# Altium footprint library HAB_Lib.PcbLib: 104 footprints (part 2 of 7)
Each footprint in its own frame and in the unit in brackets; x right, y up, seen from the top. Pads: shape width x height; smd on the part's side, far side on the other; paste and mask are expansions set on the pad; w line width, h text height; cw(c..) or ccw(c..) is an arc to the next point about the centre after c.
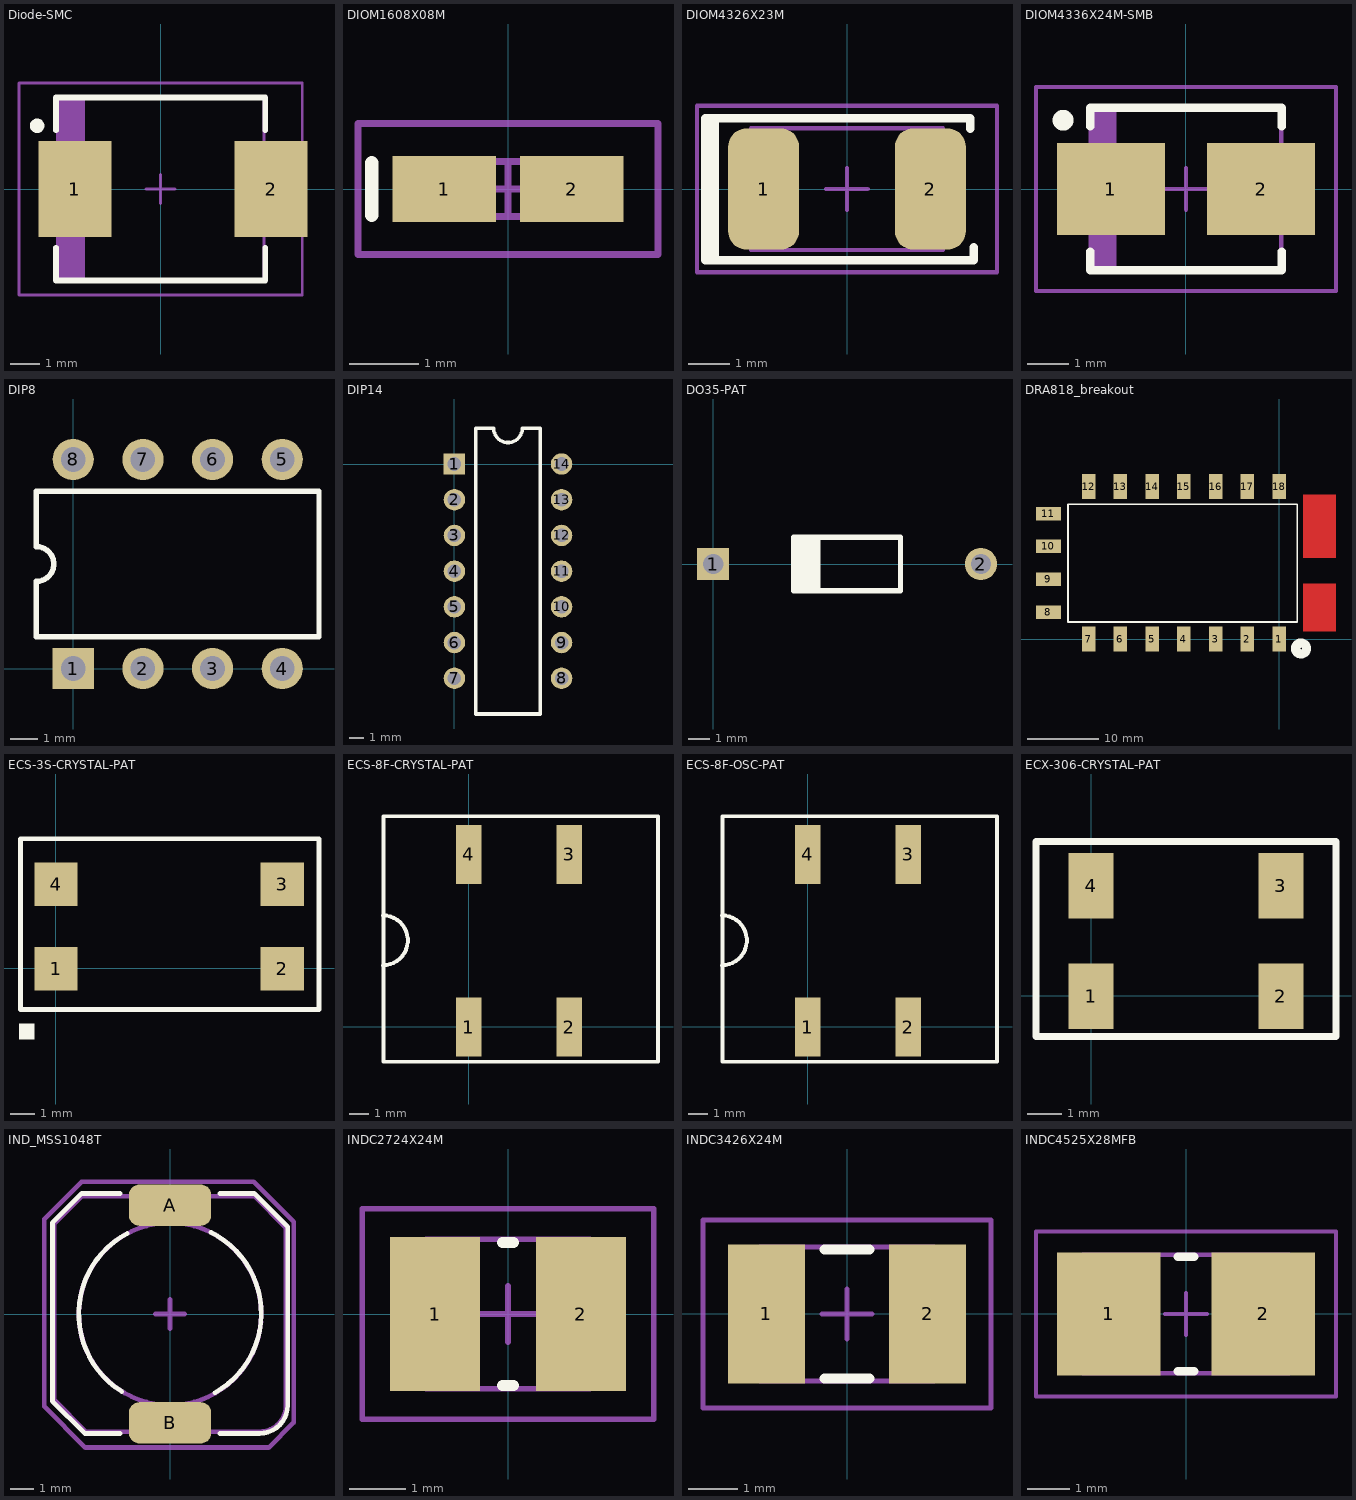
[diagram p1: the footprints below, top view; thin cyan lines are the x and y axes]

## Diode-SMC [mm] "Molded Diode, 2-Leads, SMC, IPC Low Density"
height 2.62
pads (2):
  rect 2.5x3.3 smd: 1(-2.95,0) 2(3.8,0)
Top Overlay:
  circle w0.25: c-4.25,2.175 r0.125
  lines w0.2: -3.6,-2.025 -3.6,-3.15 3.6,-3.15 3.6,-2.025 ; -3.6,2.025 -3.6,3.15 3.6,3.15 3.6,2.025
Mechanical 13:
  rectangle: -3.555,-3.11 -2.599,3.11
  lines w0.1: -3.555,-3.11 -3.555,3.11 3.555,3.11 3.555,-3.11 -3.555,-3.11
Mechanical 15:
  lines w0.1: -0.5,0 0.5,0 ; 0,-0.5 0,0.5 ; -4.875,-3.65 -4.875,3.65 4.875,3.65 4.875,-3.65 -4.875,-3.65
3D body: height 2.62, standoff 0, extent -3.555,-3.11 3.555,3.11

## DIOM1608X08M [mm] "LED, 2-Leads, Body 1.6x0.8mm, 0603,  IPC Low Density"
height 0.75
pads (2):
  rect 1.5x0.95 smd: 1(-0.925,0) 2(0.925,0)
Top Overlay:
  lines w0.2: -1.975,-0.375 -1.975,0.375
Mechanical 13:
  rectangle: -0.8,-0.4 -0.585,0.4
  lines w0.1: -0.8,-0.4 0.8,-0.4 0.8,0.4 -0.8,0.4 -0.8,-0.4
Mechanical 15:
  lines w0.1: -0.4,0 0.4,0 ; 0,-0.4 0,0.4 ; -2.175,-0.95 2.175,-0.95 2.175,0.95 -2.175,0.95 -2.175,-0.95
3D body: height 0.75, standoff 0, extent -0.8,-0.4 0.8,0.4

## DIOM4326X23M [mm] "Molded Diode, 2-Leads, Body 4.3x2.6mm, IPC Low Density"
height 2.3
pads (2):
  rrect50% 1.7x2.9 smd: 1(-2,0) 2(2,0)
Top Overlay:
  rectangle: -3.4,-1.71 -3.07,1.7
  lines w0.2: 2.96,1.45 2.96,1.7 -3.4,1.7 -3.4,-1.71 3.04,-1.71 3.04,-1.4
Mechanical 13:
  rectangle: -2.3,-1.46 -1.681,1.46
  lines w0.1: -2.3,-1.46 -2.3,1.46 2.3,1.46 2.3,-1.46 -2.3,-1.46
Mechanical 15:
  lines w0.1: -0.5,0 0.5,0 ; 0,-0.5 0,0.5 ; -3.6,-2 -3.6,2 3.6,2 3.6,-2 -3.6,-2
3D body: height 2.3, standoff 0, extent -2.3,-1.46 2.3,1.46

## DIOM4336X24M-SMB [mm] "SMB Molded Diode, 2-Leads, Body 4.3x3.6mm, IPC Low Density"
height 2.41
pads (2):
  rect 2.6x2.2 smd: 1(-1.8,0) 2(1.8,0)
Top Overlay:
  circle w0.25: c-2.95,1.65 r0.125
  lines w0.2: -2.3,-1.5 -2.3,-1.95 2.3,-1.95 2.3,-1.5 ; -2.3,1.5 -2.3,1.95 2.3,1.95 2.3,1.5
Mechanical 13:
  rectangle: -2.285,-1.905 -1.67,1.905
  lines w0.1: -2.285,-1.905 2.285,-1.905 2.285,1.905 -2.285,1.905 -2.285,-1.905
Mechanical 15:
  lines w0.1: -0.5,0 0.5,0 ; 0,-0.5 0,0.5 ; -3.6,-2.45 3.6,-2.45 3.6,2.45 -3.6,2.45 -3.6,-2.45
3D body: height 2.41, standoff 0, extent -2.285,-1.905 2.285,1.905

## DIP8 [mm]
pads (8):
  rect 1.5x1.5 hole 0.9: 1(0,0)
  round 1.5 hole 0.9: 2(2.54,0) 3(5.08,0) 4(7.62,0) 5(7.62,7.62) 6(5.08,7.62) 7(2.54,7.62) 8(0,7.62)
Top Overlay:
  lines w0.2: -1.34,1.16 8.96,1.16 8.96,6.46 -1.34,6.46 -1.34,4.445 cw(c-1.34,3.81) -1.34,3.175 -1.34,1.16

## DIP14 [mil]
pads (14):
  rect 60x60 hole 38: 1(0,0)
  round 60 hole 38: 2(0,-100) 3(0,-200) 4(0,-300) 5(0,-400) 6(0,-500) 7(0,-600) 8(300,-600) 9(300,-500) 10(300,-400) 11(300,-300) 12(300,-200) 13(300,-100) 14(300,0)
Top Overlay:
  lines w10: 60,-700 240,-700 240,100 190,100 cw(c150,100) 110,100 60,100 60,-700

## DO35-PAT [mil]
pads (2):
  rect 60x60 hole 38: 1(0,0)
  round 60 hole 38: 2(500,0)
Top Overlay:
  region: 150,-50 200,-50 200,50 150,50
  lines w10: 150,-50 150,50 350,50 350,-50 150,-50

## DRA818_breakout [mm]
pads (18):
  rect 1.9x3.5 smd: 1(0,0) 2(-4.45,0) 3(-8.9,0) 4(-13.35,0) 5(-17.8,0) 6(-22.25,0) 7(-26.7,0) 12(-26.7,21.4) 13(-22.25,21.4) 14(-17.8,21.4) 15(-13.35,21.4) 16(-8.9,21.4) 17(-4.45,21.4) 18(0,21.4)
  rect 3.5x1.9 smd: 8(-32.325,3.801) 9(-32.325,8.4) 10(-32.325,13.001) 11(-32.325,17.601)
Top Layer:
  region: 7.975,20.3 3.375,20.3 3.375,11.4 7.975,11.4
  region: 7.975,7.8 3.375,7.8 3.375,1.1 7.975,1.1
Top Overlay:
  circle w1.27: c3.075,-1.3 r0.764
  lines w0.254: -29.591,2.413 2.54,2.413 2.54,18.923 -29.591,18.923 -29.591,2.413
Drill Guide:
  lines w0.254: -26.954,0 -26.446,0 ; -26.7,-0.254 -26.7,0.254
3D body: height 3, standoff 0, extent -31.269,1.157 4.289,20.205

## ECS-3S-CRYSTAL-PAT [mm]
pads (4):
  rect 1.8x1.8 smd: 1(0.002,-0.012) 2(9.402,-0.01) 3(9.403,3.493) 4(0.004,3.488)
Top Overlay:
  region: -1.536,-2.945 -0.901,-2.945 -0.901,-2.31 -1.536,-2.31
  lines w0.203: 10.922,-1.71 10.923,5.385 ; 10.922,5.384 -1.48,5.384 -1.479,-1.709 10.923,-1.71

## ECS-8F-CRYSTAL-PAT [mm]
pads (4):
  rect 1.3x3 smd: 1(0.002,-0.012) 2(5.112,-0.014) 3(5.111,8.789) 4(0.002,8.788)
Top Overlay:
  lines w0.203: -4.38,3.14 ccw(c-4.38,4.41) -4.38,5.68 ; -4.36,-1.776 9.64,-1.776 9.64,10.736 -4.36,10.736 -4.36,-1.776

## ECS-8F-OSC-PAT [mm]
pads (4):
  rect 1.3x3 smd: 1(0.002,-0.012) 2(5.112,-0.014) 3(5.111,8.789) 4(0.002,8.788)
Top Overlay:
  lines w0.203: -4.38,3.14 ccw(c-4.38,4.41) -4.38,5.68 ; -4.36,-1.776 9.64,-1.776 9.64,10.736 -4.36,10.736 -4.36,-1.776

## ECX-306-CRYSTAL-PAT [mm]
pads (4):
  rect 1.3x1.9 smd: 1(0.002,-0.006) 2(5.506,-0.006) 3(5.506,3.193) 4(0.002,3.193)
Top Overlay:
  lines w0.203: 7.103,-1.174 -1.596,-1.174 -1.597,4.478 7.104,4.478 7.104,-1.163

## IND_MSS1048T [mil]
pads (2):
  rrect50% 140x70 smd: A(0,185) B(0,-185)
Top Overlay:
  lines w8: -85,-203 -145,-203 -200,-148 -200,155 -150,205 -85,205 ; -82,-132 cw(c0.31,-0.1) -73,137 ; 69,139 cw(c0.75,0.66) 76,-134 ; 85,-203 152.26,-203 ccw(c152.26,-155.26) 200,-155.26 200,148 143,205 85,205
Mechanical 13:
  circle w8: c0,0 r155
  lines w8: -197,-146 -197,153 -150,200 144,200 197,147 197,-153 cw(c152.45,-155.45) 150,-200 -143,-200 -197,-146
Mechanical 15:
  lines w8: -25,0 25,0 ; 0,-25 0,25 ; -213.89,-157.11 -144,-227 167.74,-227 209.74,-185 210.26,-185 210.12,-184.86 210.12,156.88 142.17,224.83 -150.48,224.83 -213.89,161.42 -213.89,-157.11
3D body: height 200, standoff 0, extent -200,-200 197,200

## INDC2724X24M [mm] "Chip Inductor, 2-Leads, Body 2.7x2.4mm, IPC Low Density"
height 2.41
pads (2):
  rect 1.6x2.75 smd: 1(-1.3,0) 2(1.3,0)
Top Overlay:
  lines w0.2: -0.1,-1.275 0.1,-1.275 ; -0.1,1.275 0.1,1.275
Mechanical 13:
  lines w0.1: -1.46,-1.33 -1.46,1.33 1.46,1.33 1.46,-1.33 -1.46,-1.33
Mechanical 15:
  lines w0.1: -0.5,0 0.5,0 ; 0,-0.5 0,0.5 ; -2.6,-1.875 -2.6,1.875 2.6,1.875 2.6,-1.875 -2.6,-1.875
3D body: height 2.41, standoff 0, extent -1.46,-1.33 1.46,1.33

## INDC3426X24M [mm] "Chip Inductor, 2-Leads, Body 3.4x2.6mm, IPC Low Density"
height 2.4
pads (2):
  rect 1.55x2.8 smd: 1(-1.625,0) 2(1.625,0)
Top Overlay:
  lines w0.2: -0.45,-1.3 0.45,-1.3 ; -0.45,1.3 0.45,1.3
Mechanical 13:
  lines w0.1: -1.75,-1.35 1.75,-1.35 1.75,1.35 -1.75,1.35 -1.75,-1.35
Mechanical 15:
  lines w0.1: -0.5,0 0.5,0 ; 0,-0.5 0,0.5 ; -2.9,-1.9 2.9,-1.9 2.9,1.9 -2.9,1.9 -2.9,-1.9
3D body: height 2.4, standoff 0, extent -1.75,-1.35 1.75,1.35

## INDC4525X28MFB [mm] "Chip Inductor, 2-Leads, Body 4.5x2.5mm, IPC Low Density"
height 2.8
pads (2):
  rect 2.45x2.9 smd: 1(-1.825,0) 2(1.825,0)
Top Overlay:
  lines w0.2: -0.2,-1.35 0.2,-1.35 ; -0.2,1.35 0.2,1.35
Mechanical 13:
  lines w0.1: -2.45,-1.4 2.45,-1.4 2.45,1.4 -2.45,1.4 -2.45,-1.4
Mechanical 15:
  lines w0.1: -0.5,0 0.5,0 ; 0,-0.5 0,0.5 ; -3.55,-1.95 3.55,-1.95 3.55,1.95 -3.55,1.95 -3.55,-1.95
3D body: height 2.8, standoff 0, extent -2.45,-1.4 2.45,1.4